# EAGLE library part DDS:AD9858(EVAL_BOARD) (library QuantumOptics)
AD9858 Evaluation Board, Analog Devices, 1GHz DDS. Definately good for the Generic version, not checked if good for Translation or Fractional Divider versions. http://www.analog.com/en/prod/0%2C2877%2CAD9858%2C00.html
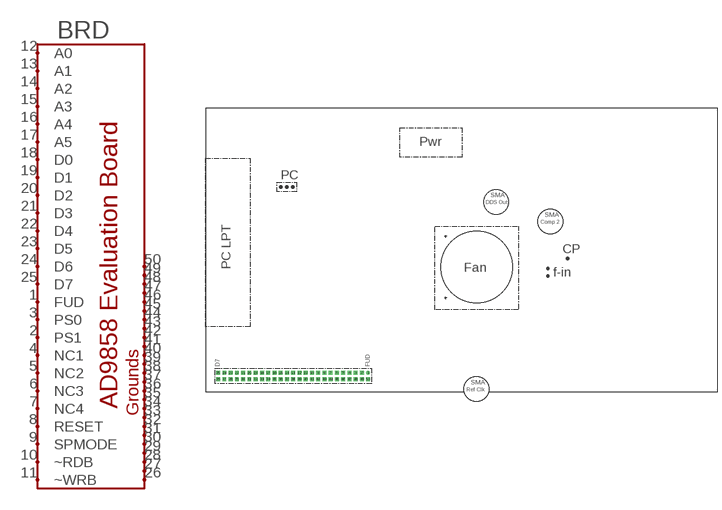
[diagram p70: symbol with the pads of DDS-AD9858_EVALBOARD; footprint DDS-AD9858_EVALBOARD]

Designator prefix BRD

## DDS:AD9858(EVAL_BOARD)  [DDS-AD9858_EVALBOARD]
1  FUD  in
2  PS1  in
3  PS0  in
4  NC1  nc
5  NC2  nc
6  NC3  nc
7  NC4  nc
8  RESET  in
9  SPMODE  in
10  ~RDB  in
11  ~WRB  in
12  A0  in
13  A1  in
14  A2  in
15  A3  in
16  A4  in
17  A5  in
18  D0
19  D1
20  D2
21  D3
22  D4
23  D5
24  D6
25  D7
26  GND1
27  GND2
28  GND3
29  GND4
30  GND5
31  GND6
32  GND7
33  GND8
34  GND9
35  GND10
36  GND11
37  GND12
38  GND13
39  GND14
40  GND15
41  GND16
42  GND17
43  GND18
44  GND19
45  GND20
46  GND21
47  GND22
48  GND23
49  GND24
50  GND25

## Footprint DDS-AD9858_EVALBOARD (pad centres in mm)
AD9858 Evaluation Board, Analog Devices, 1GHz DDS. Definately good for the Generic version, not checked if good for Translation or Fractional Divider versions. http://www.analog.com/en/prod/0%2C2877%2CAD9858%2C00.html Drill 1mm (0.04").
drill 1.067: 1 66.04,7.62
drill 1.067 square: 2 63.5,7.62; 3 60.96,7.62; 4 58.42,7.62; 5 55.88,7.62; 6 53.34,7.62; 7 50.8,7.62; 8 48.26,7.62; 9 45.72,7.62; 10 43.18,7.62; 11 40.64,7.62; 12 38.1,7.62; 13 35.56,7.62; 14 33.02,7.62; 15 30.48,7.62; 16 27.94,7.62; 17 25.4,7.62; 18 22.86,7.62; 19 20.32,7.62; 20 17.78,7.62; 21 15.24,7.62; 22 12.7,7.62; 23 10.16,7.62; 24 7.62,7.62; 25 5.08,7.62; 26 5.08,5.08; 27 7.62,5.08; 28 10.16,5.08; 29 12.7,5.08; 30 15.24,5.08; 31 17.78,5.08; 32 20.32,5.08; 33 22.86,5.08; 34 25.4,5.08; 35 27.94,5.08; 36 30.48,5.08; 37 33.02,5.08; 38 35.56,5.08; 39 38.1,5.08; 40 40.64,5.08; 41 43.18,5.08; 42 45.72,5.08; 43 48.26,5.08; 44 50.8,5.08; 45 53.34,5.08; 46 55.88,5.08; 47 58.42,5.08; 48 60.96,5.08; 49 63.5,5.08; 50 66.04,5.08